# EAGLE library part LTC6994-* (library LM555-SHAYAN-NOORANI)
Analog Devices Inc Delay IC 1us to 33.6s Datasheet <https://www.mouser.com/datasheet/2/609/LTC6994_1_6994_2-1270043.pdf>
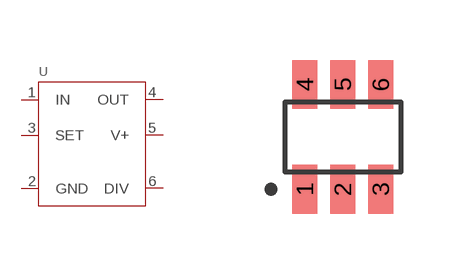
[diagram p48: symbol with the pads of SOT-23-6; footprint SOT-23-6]

Designator prefix U

## LTC6994-1 (DKPN: 505-LTC6994CS6-1#TRMPBFTR-ND; MANUFACTURER: Analog Devices Incorporated; MOPN: 584-C6994CS6-1TRMPBF; MPN: LTC6994CS6-1#TRMPBF), LTC6994-2  [SOT-23-6]
1  IN
2  GND  pwr
3  SET
4  OUT
5  V+  pwr
6  DIV

## Footprint SOT-23-6 (pad centres in mm)
6-Lead Plastic ThinSOT-23 Footprint Detailing <https://www.analog.com/media/en/package-pcb-resources/package/pkg_pdf/ltc-legacy-sot-23/SOT_6_05-08-1636.pdf>
smd 0.62 x 1.22: 1 -0.95,-1.31; 2 0,-1.31; 3 0.95,-1.31; 4 -0.95,1.31; 5 0,1.31; 6 0.95,1.31